# EAGLE library part M74HC4066RM13TR (library ST Microelectronics)
QUAD BILATERAL SWITCH
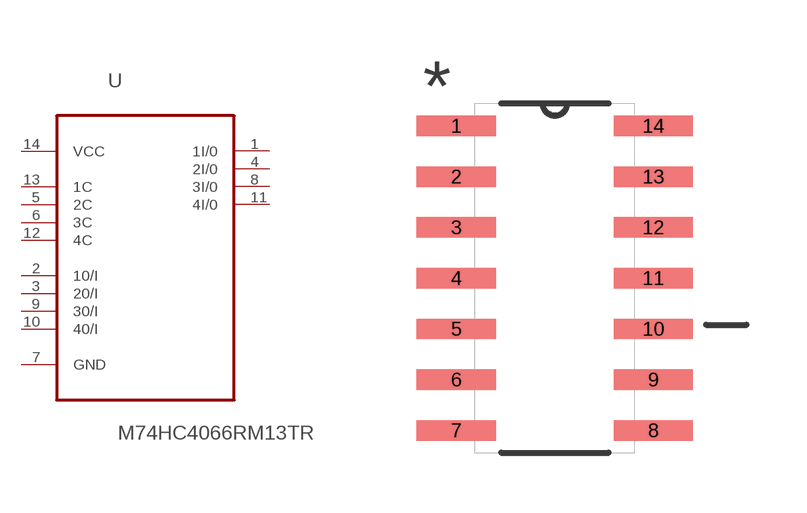
[diagram p238: symbol with the pads of SOP127P600X175-14N; footprint SOP127P600X175-14N]

Designator prefix U

## M74HC4066RM13TR (MPN: M74HC4066RM13TR; OC_FARNELL: 1278623; OC_NEWARK: 89K0913; PACKAGE: SOP-14; SUPPLIER: STMICROELECTRONICS)  [SOP127P600X175-14N]
1  1I/0
2  10/I
3  20/I
4  2I/0
5  2C  in
6  3C  in
7  GND  pas
8  3I/0
9  30/I
10  40/I
11  4I/0
12  4C  in
13  1C  in
14  VCC  pwr

## Footprint SOP127P600X175-14N (pad centres in mm)
smd 1.981 x 0.508: 1 -2.464,3.81; 2 -2.464,2.54; 3 -2.464,1.27; 4 -2.464,0; 5 -2.464,-1.27; 6 -2.464,-2.54; 7 -2.464,-3.81; 8 2.464,-3.81; 9 2.464,-2.54; 10 2.464,-1.27; 11 2.464,0; 12 2.464,1.27; 13 2.464,2.54; 14 2.464,3.81